# Altium footprint library PcbLib1.PcbLib: 98 footprints (part 7 of 7)
Each footprint in its own frame and in the unit in brackets; x right, y up, seen from the top. Pads: shape width x height; smd on the part's side, far side on the other; paste and mask are expansions set on the pad; w line width, h text height; cw(c..) or ccw(c..) is an arc to the next point about the centre after c.
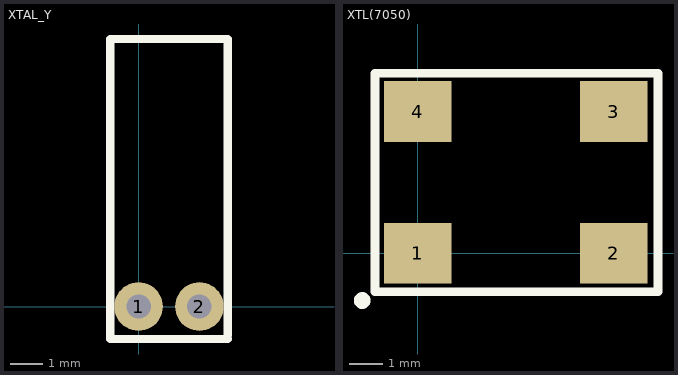
[diagram p6: the footprints below, top view; thin cyan lines are the x and y axes]

## XTAL_Y [mil]
pads (2):
  round 60 hole 30: 1(0,0) 2(75,0)
Top Overlay:
  lines w10: 110,-40 -35,-40 -35,330 110,330 110,-35

## XTL(7050) [mm]
pads (4):
  rect 2x1.8 smd: 1(0,0) 2(5.8,0) 3(5.8,4.2) 4(0,4.2)
Top Overlay:
  circle w0.25: c-1.649,-1.397 r0.125
  lines w0.254: -1.27,-1.143 -1.27,5.334 7.112,5.334 7.112,-1.143 -1.27,-1.143